# EAGLE library part MAX749 (library Ketturi electronics)
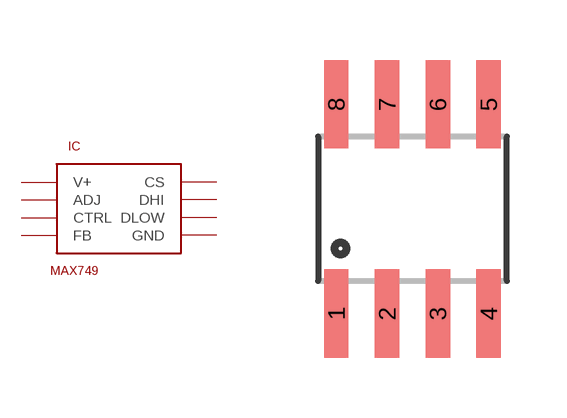
[diagram p13: symbol with the pads of SO08; footprint SO08]

Designator prefix IC

## MAX749  [SO08]
1  V+  pwr
2  ADJ  in
3  CTRL  in
4  FB  in
5  GND  pwr
6  DLOW  out
7  DHI  out
8  CS  in

## Footprint SO08 (pad centres in mm)
Small Outline Package Fits JEDEC packages (narrow SOIC-8)
smd 0.61 x 2.21: 1 -1.905,-2.616; 2 -0.635,-2.616; 3 0.635,-2.616; 4 1.905,-2.616; 5 1.905,2.616; 6 0.635,2.616; 7 -0.635,2.616; 8 -1.905,2.616